# EAGLE library part STM32F429ZIY6 (library circuit_tree)
IC
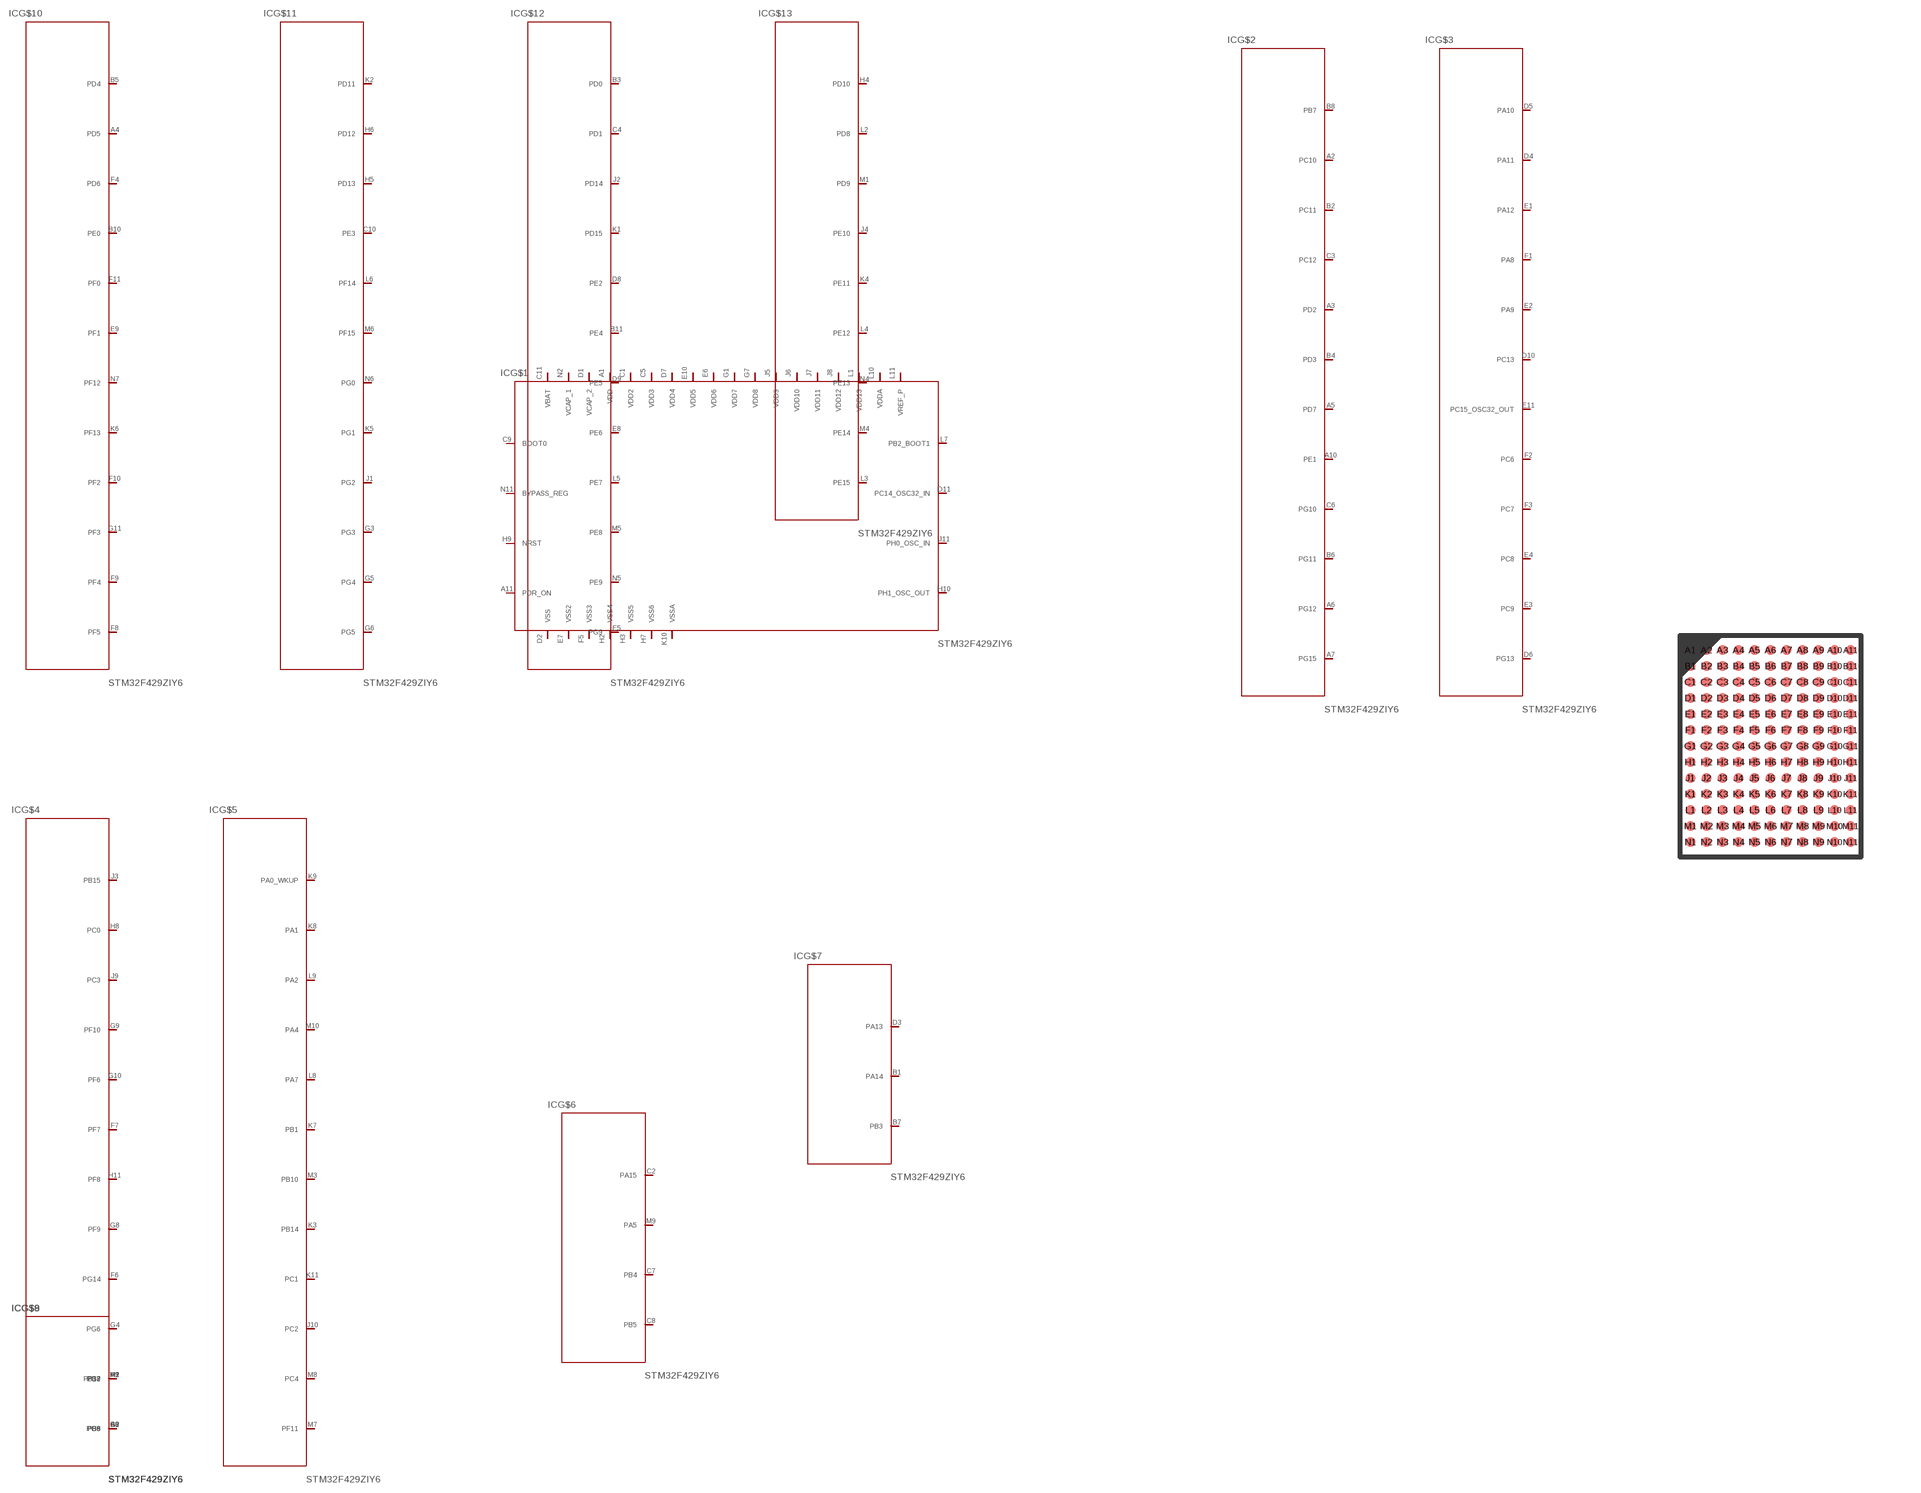
[diagram p7: symbol with the pads of WLCSP143; footprint WLCSP143]

Designator prefix IC; gates G$1=STM32F429ZIY6 G$2=STM32F429ZIY62 G$3=STM32F429ZIY63 G$4=STM32F429ZIY64 G$5=STM32F429ZIY65 G$6=STM32F429ZIY66 G$7=STM32F429ZIY67 G$8=STM32F429ZIY68 G$9=STM32F429ZIY69 G$10=STM32F429ZIY610 G$11=STM32F429ZIY611 G$12=STM32F429ZIY612 G$13=STM32F429ZIY613

## STM32F429ZIY6  [WLCSP143]
A1  G$1:VDD  pas
A2  G$2:PC10  pas
A3  G$2:PD2  pas
A4  G$10:PD5  pas
A5  G$2:PD7  pas
A6  G$2:PG12  pas
A7  G$2:PG15  pas
A8  G$9:PB6  pas
A9  G$8:PB8  pas
A10  G$2:PE1  pas
A11  G$1:PDR_ON  pas
B1  G$7:PA14  pas
B2  G$2:PC11  pas
B3  G$12:PD0  pas
B4  G$2:PD3  pas
B5  G$10:PD4  pas
B6  G$2:PG11  pas
B7  G$7:PB3  pas
B8  G$2:PB7  pas
B9  G$8:PB9  pas
B10  G$10:PE0  pas
B11  G$12:PE4  pas
C1  G$1:VDD2  pas
C2  G$6:PA15  pas
C3  G$2:PC12  pas
C4  G$12:PD1  pas
C5  G$1:VDD3  pas
C6  G$2:PG10  pas
C7  G$6:PB4  pas
C8  G$6:PB5  pas
C9  G$1:BOOT0  pas
C10  G$11:PE3  pas
C11  G$1:VBAT  pas
D1  G$1:VCAP_2  pas
D2  G$1:VSS  pas
D3  G$7:PA13  pas
D4  G$3:PA11  pas
D5  G$3:PA10  pas
D6  G$3:PG13  pas
D7  G$1:VDD4  pas
D8  G$12:PE2  pas
D9  G$12:PE5  pas
D10  G$3:PC13  pas
D11  G$1:PC14_OSC32_IN  pas
E1  G$3:PA12  pas
E2  G$3:PA9  pas
E3  G$3:PC9  pas
E4  G$3:PC8  pas
E5  G$12:PG9  pas
E6  G$1:VDD6  pas
E7  G$1:VSS2  pas
E8  G$12:PE6  pas
E9  G$10:PF1  pas
E10  G$1:VDD5  pas
E11  G$3:PC15_OSC32_OUT  pas
F1  G$3:PA8  pas
F2  G$3:PC6  pas
F3  G$3:PC7  pas
F4  G$10:PD6  pas
F5  G$1:VSS3  pas
F6  G$4:PG14  pas
F7  G$4:PF7  pas
F8  G$10:PF5  pas
F9  G$10:PF4  pas
F10  G$10:PF2  pas
F11  G$10:PF0  pas
G1  G$1:VDD7  pas
G2  G$4:PG8  pas
G3  G$11:PG3  pas
G4  G$4:PG6  pas
G5  G$11:PG4  pas
G6  G$11:PG5  pas
G7  G$1:VDD8  pas
G8  G$4:PF9  pas
G9  G$4:PF10  pas
G10  G$4:PF6  pas
G11  G$10:PF3  pas
H1  G$4:PG7  pas
H2  G$1:VSS4  pas
H3  G$1:VSS5  pas
H4  G$13:PD10  pas
H5  G$11:PD13  pas
H6  G$11:PD12  pas
H7  G$1:VSS6  pas
H8  G$4:PC0  pas
H9  G$1:NRST  pas
H10  G$1:PH1_OSC_OUT  pas
H11  G$4:PF8  pas
J1  G$11:PG2  pas
J2  G$12:PD14  pas
J3  G$4:PB15  pas
J4  G$13:PE10  pas
J5  G$1:VDD9  pas
J6  G$1:VDD10  pas
J7  G$1:VDD11  pas
J8  G$1:VDD12  pas
J9  G$4:PC3  pas
J10  G$5:PC2  pas
J11  G$1:PH0_OSC_IN  pas
K1  G$12:PD15  pas
K2  G$11:PD11  pas
K3  G$5:PB14  pas
K4  G$13:PE11  pas
K5  G$11:PG1  pas
K6  G$10:PF13  pas
K7  G$5:PB1  pas
K8  G$5:PA1  pas
K9  G$5:PA0_WKUP  pas
K10  G$1:VSSA  pas
K11  G$5:PC1  pas
L1  G$1:VDD13  pas
L2  G$13:PD8  pas
L3  G$13:PE15  pas
L4  G$13:PE12  pas
L5  G$12:PE7  pas
L6  G$11:PF14  pas
L7  G$1:PB2_BOOT1  pas
L8  G$5:PA7  pas
L9  G$5:PA2  pas
L10  G$1:VDDA  pas
L11  G$1:VREF_P  pas
M1  G$13:PD9  pas
M2  G$9:PB12  pas
M3  G$5:PB10  pas
M4  G$13:PE14  pas
M5  G$12:PE8  pas
M6  G$11:PF15  pas
M7  G$5:PF11  pas
M8  G$5:PC4  pas
M9  G$6:PA5  pas
M10  G$5:PA4  pas
N2  G$1:VCAP_1  pas
N4  G$13:PE13  pas
N5  G$12:PE9  pas
N6  G$11:PG0  pas
N7  G$10:PF12  pas
N11  G$1:BYPASS_REG  pas

## Footprint WLCSP143 (pad centres in mm)
WLCSP143 4.521 x 5.547 mm, 11 x 13-pin 0.4 mm pitch wafer-level chip-scale package
smd 0.25 x 0.25: A1 -1.999,2.405; A2 -1.599,2.405; A3 -1.199,2.405; A4 -0.799,2.405; A5 -0.399,2.405; A6 0.001,2.405; A7 0.401,2.405; A8 0.801,2.405; A9 1.201,2.405; A10 1.601,2.405; A11 2.001,2.405; B1 -1.999,2.005; B2 -1.599,2.005; B3 -1.199,2.005; B4 -0.799,2.005; B5 -0.399,2.005; B6 0.001,2.005; B7 0.401,2.005; B8 0.801,2.005; B9 1.201,2.005; B10 1.601,2.005; B11 2.001,2.005; C1 -1.999,1.605; C2 -1.599,1.605; C3 -1.199,1.605; C4 -0.799,1.605; C5 -0.399,1.605; C6 0.001,1.605; C7 0.401,1.605; C8 0.801,1.605; C9 1.201,1.605; C10 1.601,1.605; C11 2.001,1.605; D1 -1.999,1.205; D2 -1.599,1.205; D3 -1.199,1.205; D4 -0.799,1.205; D5 -0.399,1.205; D6 0.001,1.205; D7 0.401,1.205; D8 0.801,1.205; D9 1.201,1.205; D10 1.601,1.205; D11 2.001,1.205; E1 -1.999,0.805; E2 -1.599,0.805; E3 -1.199,0.805; E4 -0.799,0.805; E5 -0.399,0.805; E6 0.001,0.805; E7 0.401,0.805; E8 0.801,0.805; E9 1.201,0.805; E10 1.601,0.805; E11 2.001,0.805; F1 -1.999,0.405; F2 -1.599,0.405; F3 -1.199,0.405; F4 -0.799,0.405; F5 -0.399,0.405; F6 0.001,0.405; F7 0.401,0.405; F8 0.801,0.405; F9 1.201,0.405; F10 1.601,0.405; F11 2.001,0.405; G1 -1.999,0.005; G2 -1.599,0.005; G3 -1.199,0.005; G4 -0.799,0.005; G5 -0.399,0.005; G6 0.001,0.005; G7 0.401,0.005; G8 0.801,0.005; G9 1.201,0.005; G10 1.601,0.005; G11 2.001,0.005; H1 -1.999,-0.395; H2 -1.599,-0.395; H3 -1.199,-0.395; H4 -0.799,-0.395; H5 -0.399,-0.395; H6 0.001,-0.395; H7 0.401,-0.395; H8 0.801,-0.395; H9 1.201,-0.395; H10 1.601,-0.395; H11 2.001,-0.395; J1 -1.999,-0.795; J2 -1.599,-0.795; J3 -1.199,-0.795; J4 -0.799,-0.795; J5 -0.399,-0.795; J6 0.001,-0.795; J7 0.401,-0.795; J8 0.801,-0.795; J9 1.201,-0.795; J10 1.601,-0.795; J11 2.001,-0.795; K1 -1.999,-1.195; K2 -1.599,-1.195; K3 -1.199,-1.195; K4 -0.799,-1.195; K5 -0.399,-1.195; K6 0.001,-1.195; K7 0.401,-1.195; K8 0.801,-1.195; K9 1.201,-1.195; K10 1.601,-1.195; K11 2.001,-1.195; L1 -1.999,-1.595; L2 -1.599,-1.595; L3 -1.199,-1.595; L4 -0.799,-1.595; L5 -0.399,-1.595; L6 0.001,-1.595; L7 0.401,-1.595; L8 0.801,-1.595; L9 1.201,-1.595; L10 1.601,-1.595; L11 2.001,-1.595; M1 -1.999,-1.995; M2 -1.599,-1.995; M3 -1.199,-1.995; M4 -0.799,-1.995; M5 -0.399,-1.995; M6 0.001,-1.995; M7 0.401,-1.995; M8 0.801,-1.995; M9 1.201,-1.995; M10 1.601,-1.995; M11 2.001,-1.995; N1 -1.999,-2.395; N2 -1.599,-2.395; N3 -1.199,-2.395; N4 -0.799,-2.395; N5 -0.399,-2.395; N6 0.001,-2.395; N7 0.401,-2.395; N8 0.801,-2.395; N9 1.201,-2.395; N10 1.601,-2.395; N11 2.001,-2.395